# Altium schematic symbol library Winnetrie_library.SchLib: 24 symbols
Pins are listed as number, name and electrical type; pins without a type are passive.

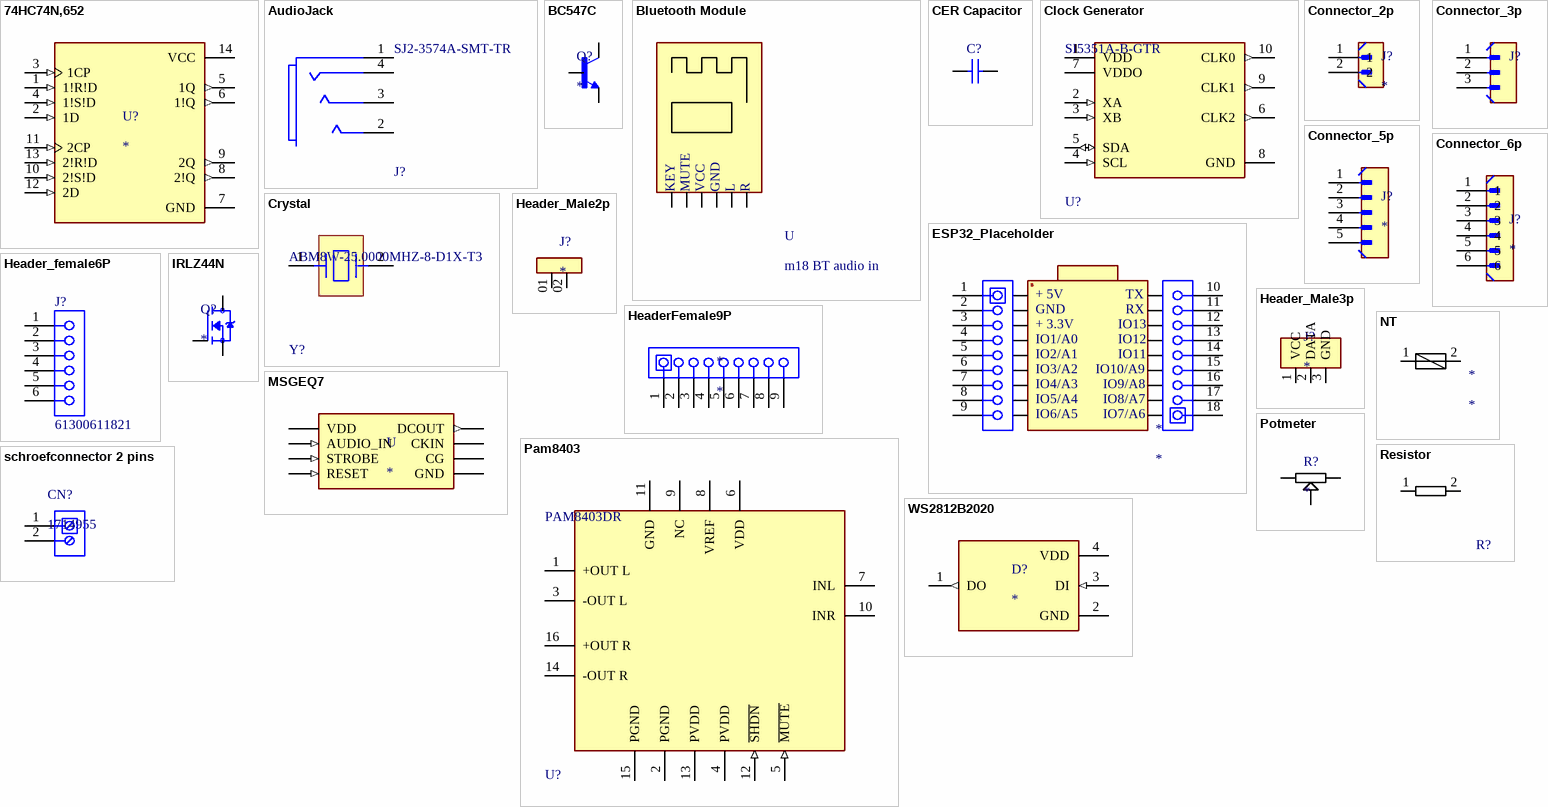
[diagram p0: symbols 74HC74N,652 to WS2812B2020]

## 74HC74N,652
designator U?
D FLIP-FLOP; MF: Rochester Electronics, LLC; MP: 74HC74N,652; Check_prices: https://www.snapeda.com/parts/74HC74N,652/Rochester%20Electronics/view-part/5010421/?ref=eda; Price: None; SnapEDA_Link: https://www.snapeda.com/parts/74HC74N,652/Rochester%20Electronics/view-part/5010421/?ref=snap; Value: *; Availability: Warning; Package: None; Purchase-URL: https://pricing.snapeda.com/search/part/74HC74N,652/?ref=eda
footprint 74HC74 (DIP762W45P254L1950H420Q14)
pins: 1 1!R!D (in), 2 1D (in), 3 1CP (in), 4 1!S!D (in), 5 1Q (out), 6 1!Q (out), 7 GND (power), 8 2!Q (out), 9 2Q (out), 10 2!S!D (in), 11 2CP (in), 12 2D (in), 13 2!R!D (in), 14 VCC (power)

## AudioJack
designator J?, comment SJ2-3574A-SMT-TR
AUDIO JACK, 3.5 MM, RT, 4 CONDUC; Manufacturer: CUI; Conn Orientation: Horizontal; Current Rating: 1A; Number Of Contacts: 4; Voltage Rating: 12V; Package: SJ2-3574A-SMT-TR; Device Class L1: Connectors; Lead Free: Yes; Digikey Description: AUDIO JACK, 3.5 MM, RT, 4 CONDUC; Device Class L2: Audio / Video Connectors; ComponentLink2URL: https://www.cui.com/product/resource/sj2-357x-smt.pdf; Automotive: No; RoHS: TRUE; Height: 5.3mm; Temperature Range Low: -25°C; Category: Conn; Temperature: -25°C to +85°C; Octopart: https://octopart.com/sj2-3574a-smt-tr-cui-77838840; Device Class L3: unset; Contact Material: Silver; Manufacturer Part Number: SJ2-3574A-SMT-TR; Temperature Range High: +85°C; ComponentLink2Description: Datasheet
footprint AudioJack (FP-SJ2-3574A-SMT-TR-MFG)
pins: 1 sleeve, 2 tip, 3 ring 1, 4 ring 2

## BC547C
designator Q?
BJT, TO-92, 45V, 100mA, NPN, 0.5W, 150Â°C; MF: Diotec Semiconductor; MP: BC547C; Package: TO-92; Price: None; Value: *; SnapEDA_Link: https://www.snapeda.com/parts/BC547C/Diotec/view-part/?ref=snap; Availability: Unavailable; Check_prices: https://www.snapeda.com/parts/BC547C/Diotec/view-part/?ref=eda
footprint Transistor (TRANS_BC547C)
pins: 1 C, 2 B, 3 E

## Bluetooth Module
designator U, comment m18 BT audio in
Bluetooth module
footprint ESP32_placeholder
text: KEY; MUTE; VCC; GND; L; R

## CER Capacitor
designator C?
Manufacturer: Vitramon; Part Number: VJ0805Y682KXAMT
footprint SMD_CAPACITOR (CAPC2013X145X48ML20T23Chip Capacitor, 2-Leads, Body 2.00x1.25mm, IPC Low Density)
pins: 1, 2
1 alternate drawing of the same symbol

## Clock Generator
designator U?, comment SI5351A-B-GTR
IC CLK GENERATOR 200MHZ 10MSOP; PLL: Yes; Number of Circuits: 2; Max Duty Cycle: 55%; Operating Supply Voltage: 3.3V; Input: Crystal; Number of Outputs: 3; Operating Supply Current: 22mA; Packaging: Tape and Reel; Max Frequency: 200MHz; Min Operating Temperature: -40°C; Case/Package: MSOP; Mount: Surface Mount; Max Operating Temperature: 85°C; RoHS Compliant: Yes; Series: MultiSynth™; Number of Pins: 10; Package Quantity: 2500
footprint ClockGenerator (FP-SI5351A-B-GTR-MFG)
pins: 1 VDD (power), 2 XA (in), 3 XB (in), 4 SCL (in), 5 SDA (io), 6 CLK2 (out), 7 VDDO (power), 8 GND (power), 9 CLK1 (out), 10 CLK0 (out)

## Connector_2p
designator J?
Connector Header Through Hole 2 position 0.079 (2.00mm)B2B-PH-K-S; MF: JST Sales America Inc.; SnapEDA_Link: https://www.snapeda.com/parts/B2B-PH-K-S/JST/view-part/?ref=snap; Package: None; Value: *; MP: B2B-PH-K-S; Check_prices: https://www.snapeda.com/parts/B2B-PH-K-S/JST/view-part/?ref=eda
footprint Connector2P (JST_B2B-PH-K-S)
pins: 1, 2

## Connector_3p
designator J?, comment B3B-PH-K-S  (value not drawn)
MF: {'manufacturer': u'JST Sales America Inc.'}; Package: None; Price: None; Value: *; MP: B3B-PH-K-S; Availability: Unavailable
footprint Connector3P (JST_B3B-PH-K-S)
pins: 1, 2, 3

## Connector_5p
designator J?
B5B-PH-K-S; MF: {'manufacturer': u'JST Sales America Inc.'}; Package: None; Price: None; Value: *; MP: B5B-PH-K-S; Availability: Unavailable
footprint Connector5P (JST_B5B-PH-K-S)
pins: 1, 2, 3, 4, 5

## Connector_6p
designator J?
Conn Shrouded Header (4 Sides) HDR 6 POS 2mm Solder ST Top Entry Thru-Hole Box / B6B-PH-K; MF: JST Corporation; SnapEDA_Link: https://www.snapeda.com/parts/B6B-PH-K/JST/view-part/?ref=snap; Package: None; Value: *; MP: B6B-PH-K; Check_prices: https://www.snapeda.com/parts/B6B-PH-K/JST/view-part/?ref=eda
footprint JST_B6B-PH-K
pins: 1, 2, 3, 4, 5, 6

## Crystal
designator Y?, comment ABM8W-25.0000MHZ-8-D1X-T3
Crystal 25.0000Mhz 8Pf Smd Rohs Compliant: Yes |Abracon ABM8W-25.0000MHZ-8-D1X-T3; Symbol Hash: 5ad2309f83030e0db84e76142195c3471039205ed86bf5db55117304b0c05392; Frequency: 25MHz; Tolerance: 10ppm; Verification Version: 0.0.0.3; Stability: 20ppm; Esr: 50Ω; Mouser Part Number: 815-8W25-8D1XT; Mouser Description: Crystal 25.0000Mhz 8Pf Smd Rohs Compliant: Yes |Abracon ABM8W-25.0000MHZ-8-D1X-T3; Datasheet Date: 2022-07-11; Temperature Range High: +85°C; Part Number: ABM8W-25.0000MHZ-8-D1X-T3; Digikey Description: CRYSTAL 25.0000MHZ 8PF SMD; Digikey Part Number: 535-14059-1-ND; ComponentLink2URL: https://abracon.com/datasheets/ABM8W.pdf; ComponentLink2Description: Datasheet; Lead Free: Yes; Height: 0.75mm; Automotive: No; Temperature Range Low: -40°C; RoHS: TRUE; Manufacturer: Abracon; Package: ABM8W; Load Capacitance: 8pF; Series: ABM8W; ComponentLink1Description: Upverter; Supplier 2: Mouser; Supplier 1: Digi-Key; ComponentLink1URL: https://upverter.com/part/id/6105b10e08f999b5/; Supplier Part Number 2: 815-8W25-8D1XT; Supplier Part Number 1: 535-14059-1-ND; helpURL: https://upverter.com/part/id/6105b10e08f999b5/; Temperature: -40°C to +85°C; RoHS: Compliant; ComponentLink2Description: Datasheet URL; Schedule B: 8541600080; HelpURL: https://abracon.com/datasheets/ABM8W.pdf
footprint Crystal (XTAL_ECS250204XFDN)
pins: 1, 2

## ESP32_Placeholder
designator *
footprint ESP32_placeholder
pins: 1, 2, 3, 4, 5, 6, 7, 8, 9, 10, 11, 12, 13, 14, 15, 16, 17, 18
text: + 5V; TX; GND; RX; + 3.3V; IO13; IO1/A0; IO12; IO2/A1; IO11; IO3/A2; IO10/A9; IO4/A3; IO9/A8; IO5/A4; IO8/A7; IO6/A5; IO7/A6

## Header_female6P
designator J?, comment 61300611821
THT Vertical Socket Header WR-PHD, Pitch 2.54 mm, Single Row, 6 pins; Current Rating: 3A; Contact Resistance: 20mΩ; Gender: Female; Operating Supply Voltage: 250V; RoHS: Compliant; Orientation: Vertical; Number of Pins: 6; Lead Pitch: 2.54mm
footprint HEADER-6PINS (Socket Header, Pitch 2.54 mm, THT, Vertical, single row, 6p)
pins: 1, 2, 3, 4, 5, 6

## Header_Male2p
designator J?
Variable Height PCB Header Strips, 0.100 pitch; MF: SAMTEC; MP: MTSW-101-09-L-D-210; SnapEDA_Link: https://www.snapeda.com/parts/MTSW-101-09-L-D-210/Samtec/view-part/?ref=snap; Package: None; Value: *; Check_prices: https://www.snapeda.com/parts/MTSW-101-09-L-D-210/Samtec/view-part/?ref=eda
footprint MaleHeader2P (SAMTEC_TD-101-X-A)
pins: 01, 02

## Header_Male3p
designator J?
Variable Height PCB Header Strips, 0.100 pitch; MF: SAMTEC; MP: MTSW-101-09-L-D-210; SnapEDA_Link: https://www.snapeda.com/parts/MTSW-101-09-L-D-210/Samtec/view-part/?ref=snap; Package: None; Value: *; Check_prices: https://www.snapeda.com/parts/MTSW-101-09-L-D-210/Samtec/view-part/?ref=eda
footprint MaleHeader3P (SAMTEC_TD-101-X-A)
pins: 1 VCC, 2 DATA, 3 GND

## HeaderFemale9P
designator *
footprint Header-9pins (SMTC-SSW-112-01-X-S   SQ Post Socket, 1x12 Pins, Vertical, 2.54mm Pitch, Female)
pins: 1, 2, 3, 4, 5, 6, 7, 8, 9

## IRLZ44N
designator Q?
N-Channel 55 V 47A (Tc) 3.8W (Ta), 110W (Tc) Surface Mount D2PAK; MP: IRLZ44N; MF: Infineon / IR; Package: TO-220-3 Infineon / IR; Availability: Not in stock; Value: *; Check_prices: https://www.snapeda.com/parts/IRLZ44N/Infineon/view-part/?ref=eda; Price: None; SnapEDA_Link: https://www.snapeda.com/parts/IRLZ44N/Infineon/view-part/?ref=snap
footprint MOSFET (TO254P1054X469X1930-3)
pins: 1 G, 2 D, 3 S

## MSGEQ7
designator U
MSGEQ7 Signal Level Control Interface Arduino Platform Evaluation Expansion Board; MF: SparkFun Electronics; Price: None; Availability: Unavailable; SnapEDA_Link: https://www.snapeda.com/parts/MSGEQ7/SparkFun%20Electronics/view-part/106617/?ref=snap; Value: *; Package: SOIC-8 Mixed Signal Integration; MP: MSGEQ7
footprint MSGEQ7 (DIL-08)
pins: 1 VDD (power), 2 GND (power), 3 DCOUT (out), 4 STROBE (in), 5 AUDIO_IN (in), 6 CG, 7 RESET (in), 8 CKIN

## NT
designator *
footprint NT
pins: 1, 2

## Pam8403
designator U?, comment PAM8403DR
IC AMP CLASS D STEREO 3W 16SOP; Manufacturer: Diodes Inc.; Min Supply Voltage: 2.5V; Standoff Height: 0.1mm; Max Junction Temp: +125°C; Number Of Channels: 2; Power At Speaker R: 3.2W @ 4Ω; Nominal Supply Current: 8-16mA; Max Supply Voltage: 5.5V; Package: SO-16; Device Class L3: Amplifiers - Audio; Ipc Land Pattern Name: SOIC127P600X119-16; ComponentLink2URL: https://www.diodes.com/assets/Datasheets/PAM8403.pdf; Automotive: No; ComponentLink2Description: Datasheet; Device Class L1: Integrated Circuits (ICs); Digikey Description: IC AMP CLASS D STEREO 3W 16SOP; Temperature Range High: +85°C; Mouser Description: PAM8403 Series 5.5 V 3 W Filterless Class-D Stereo Audio Amplifier - SOIC-16; RoHS: TRUE; Temperature: -40°C to +85°C; Temperature Range Low: -40°C; Manufacturer Part Number: PAM8403DR; Octopart: https://octopart.com/pam8403dr-diodes+inc.-29030487; Device Class L2: Linear ICs; Category: IC; Footprint Url: https://www.diodes.com/assets/Package-Files/SO-16.pdf; Lead Free: Yes; Height: 1.26mm
footprint PAM8403 (FP-SO-16-IPC_B)
pins: 1 +OUT L, 2 PGND (power), 3 -OUT L, 4 PVDD (power), 5 ~{MUTE} (in), 6 VDD (power), 7 INL, 8 VREF, 9 NC, 10 INR, 11 GND (power), 12 ~{SHDN} (in), 13 PVDD (power), 14 -OUT R, 15 PGND (power), 16 +OUT R

## Potmeter
designator R?
16mm Rotary Potentiometers / WH148-1A-2-18T-L20; MF: Kls electronics; SnapEDA_Link: https://www.snapeda.com/parts/WH148-1A-2-18T-L20/Kls+electronics/view-part/?ref=snap; Package: Package; Value: *; MP: WH148-1A-2-18T-L20; Check_prices: https://www.snapeda.com/parts/WH148-1A-2-18T-L20/Kls+electronics/view-part/?ref=eda
footprint POTENTIOMETER (TRIM_WH148-1A-2-18T-L20)
pins: 1, 2, 3

## Resistor
designator R?
RES SMD 681 OHM 0.1% 1/8W 0805; Manufacturer: Yageo; Manufacturer Part Number: RT0805BRD07681RL; Value: 681Ω; Temperature Coefficient: 25 ppm/°C; Power Rating: 0.125W; Voltage Rating: 150V; Tolerance: 0.0025; ComponentLink2URL: http://www.yageo.com/documents/recent/PYu-RT_1-to-0.01_RoHS_L_9.pdf; Ipc Land Pattern Name: RESC200125X50; Footprint Url: http://www.yageo.com/exep/pages/download/literatures/PYu-R_Mount_10.pdf; Temperature: -55°C to +155°C; Resistance: 681Ω; Mouser Description: Thin Film Resistors - SMD 1/8W 681 ohm .1% 25ppm; Temperature Range High: +155°C; Device Class L3: Chip SMD Resistors; Automotive: No; Octopart: https://octopart.com/rt0805brd07681rl-yageo-1270194; Device Class L1: Passive Components; Package: RT0805; Device Class L2: Resistors; Category: Res; RoHS: TRUE; Composition: Thin Film; ComponentLink2Description: Datasheet; Temperature Range Low: -55°C; Lead Free: Yes; Digikey Description: RES SMD 681 OHM 0.1% 1/8W 0805; Height: 0.6mm; Series: RT
footprint SMD_RESISTOR (FP-RT0805-IPC_A)
pins: 1, 2

## schroefconnector 2 pins
designator CN?, comment 1714955
PC Terminal Block, Pitch 6.35 mm, 1 x 2 Position, Height 21.5 mm, Tail Lenght 5.1 mm, RoHS, Bulk; Manufacturer: Phoenix Contact; Package Description: PC Terminal Block, Pitch 6.35 mm, 1 x 2 Position, Height 21.5 mm, Tail Lenght 5.1 mm; Datasheet URL: http://media.digikey.com/pdf/Data%20Sheets/Phoenix%20Contact%20PDFs/1714955.pdf; Package Reference: 1714955; Manufacturer URL: http://www.phoenixcontact.com/; Datasheet Version: 02/2010; Mounting Technology: ThroughHole
footprint SchroefConnector2P (CUI_TB004-508-02BE)
pins: 1, 2

## WS2812B2020
designator D?
LED; SMD; 2020; RGB; 2x2x0.84mm; 3.7Ã·5.3V; Lens: transparent; 2kHz; MF: WorldSemi; MP: WS2812B2020; SnapEDA_Link: https://www.snapeda.com/parts/WS2812B2020/Worldsemi/view-part/?ref=snap; Package: None; Value: *; Check_prices: https://www.snapeda.com/parts/WS2812B2020/Worldsemi/view-part/?ref=eda
footprint RGBLED (LED_WS2812B2020)
pins: 1 DO (out), 2 GND (power), 3 DI (in), 4 VDD (power)